# Altium footprint library BoardLib.PcbLib: 21 footprints (part 1 of 2)
Each footprint in its own frame and in the unit in brackets; x right, y up, seen from the top. Pads: shape width x height; smd on the part's side, far side on the other; paste and mask are expansions set on the pad; w line width, h text height; cw(c..) or ccw(c..) is an arc to the next point about the centre after c.
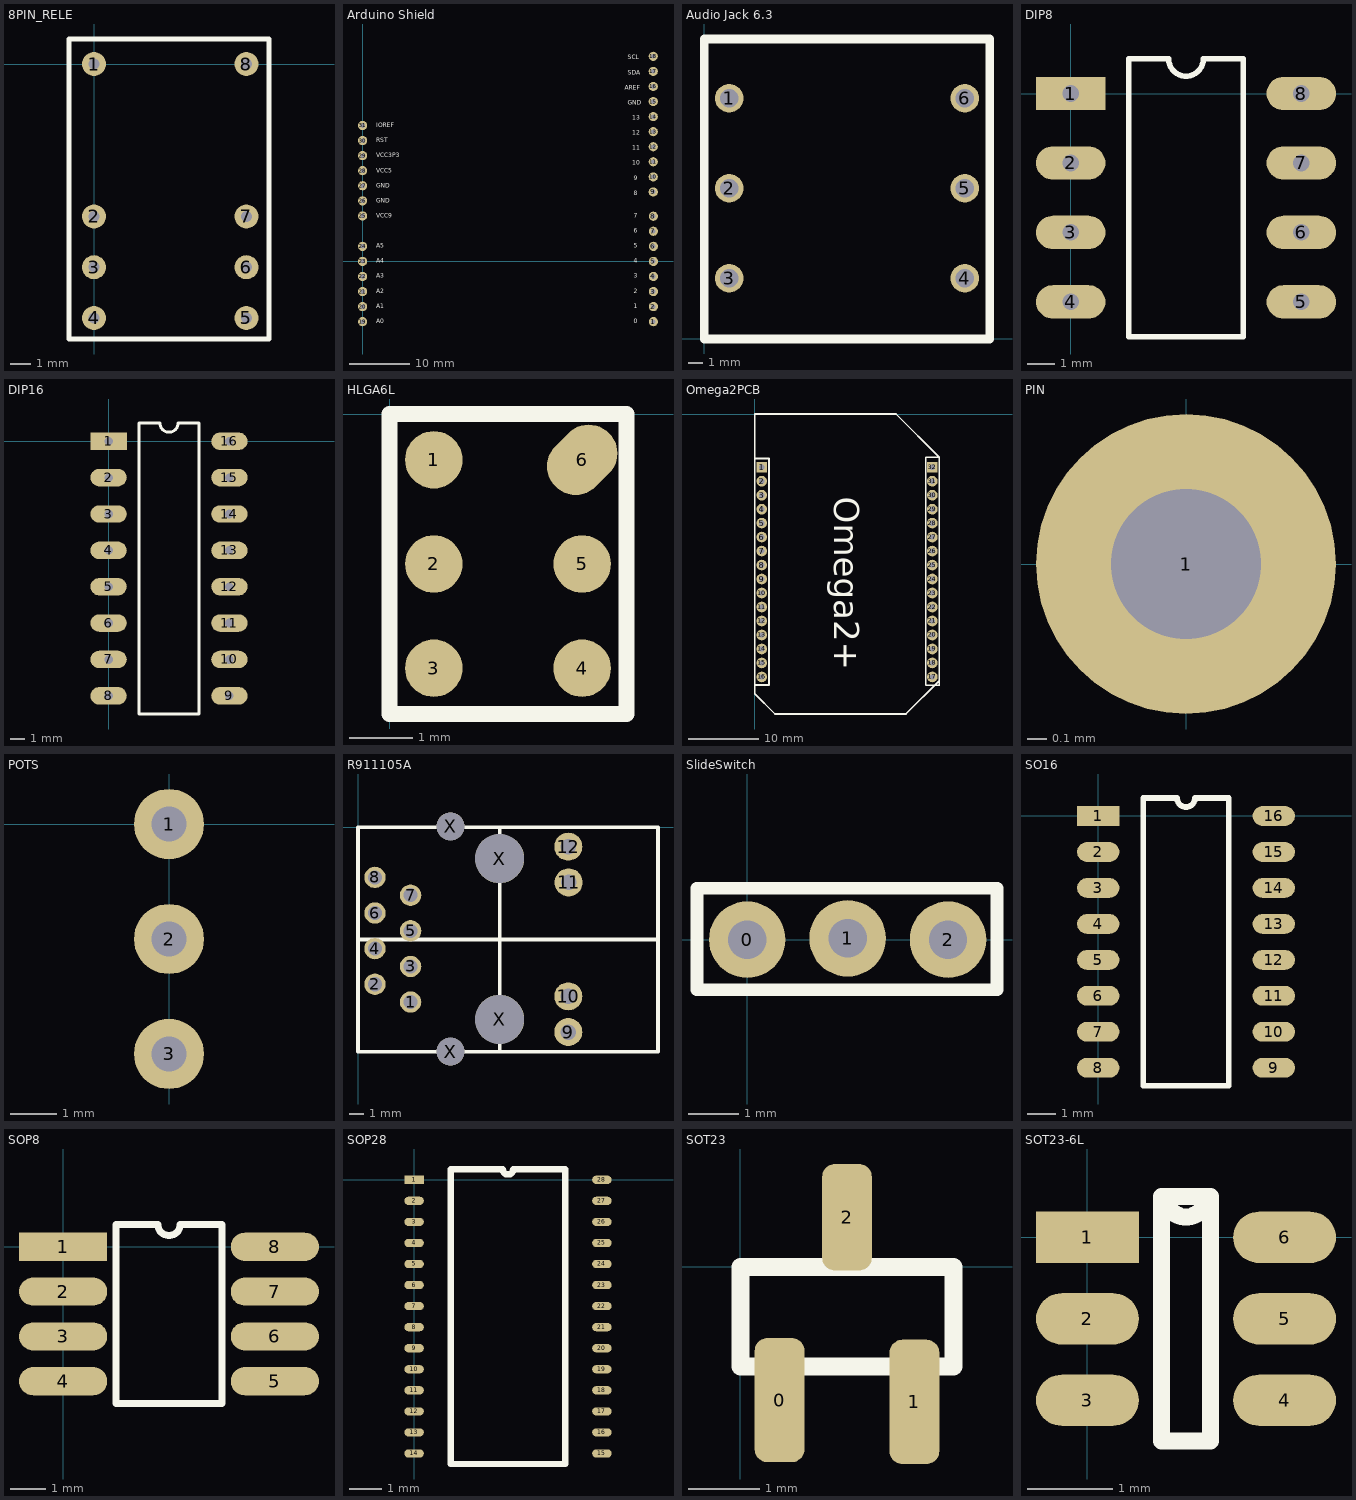
[diagram p0: the footprints below, top view; thin cyan lines are the x and y axes]

## 8PIN_RELE [mm]
pads (8):
  round 1.2 hole 0.55: 1(0,0) 2(0,-7.62) 3(0,-10.16) 4(0,-12.7) 5(7.62,-12.7) 6(7.62,-10.16) 7(7.62,-7.62) 8(7.62,0)
Top Overlay:
  lines w0.254: -1.25,-13.75 -1.25,1.25 8.75,1.25 8.75,-13.75 -1.25,-13.75
3D body: height 11.5, standoff 0, extent -1.377,-13.877 8.877,1.377

## Arduino Shield [mil]
pads (31):
  round 60 hole 30: 1(1899.61,-393.7) 2(1899.61,-295.28) 3(1899.61,-196.85) 4(1899.61,-98.43) 5(1899.61,0) 6(1899.61,98.43) 7(1899.61,196.85) 8(1899.61,295.28) 9(1898.62,453.74) 10(1898.62,552.17) 11(1898.62,650.59) 12(1898.62,749.02) 13(1898.62,847.44) 14(1898.62,945.87) 15(1898.62,1044.29) 16(1898.62,1142.72) 17(1898.62,1241.14) 18(1898.62,1339.57) 19(0,-393.7) 20(0,-295.28) 21(0,-196.85) 22(0,-98.43) 23(0,0) 24(0,98.43) 25(0,297.24) 26(0,395.67) 27(0,494.09) 28(0,592.52) 29(0,690.94) 30(0,789.37) 31(0,887.8)
Top Overlay:
  text "0" at 1771.65,-403.54 h27.56
  text "1" at 1771.65,-305.12 h27.56
  text "2" at 1771.65,-206.69 h27.56
  text "3" at 1771.65,-108.27 h27.56
  text "4" at 1771.65,-9.84 h27.56
  text "5" at 1771.65,88.58 h27.56
  text "6" at 1771.65,187.01 h27.56
  text "7" at 1771.65,285.43 h27.56
  text "8" at 1771.65,433.07 h27.56
  text "9" at 1771.65,531.5 h27.56
  text "10" at 1761.81,629.92 h27.56
  text "11" at 1761.81,728.35 h27.56
  text "12" at 1761.81,826.77 h27.56
  text "13" at 1761.81,925.2 h27.56
  text "GND" at 1732.28,1023.62 h27.56
  text "AREF" at 1712.6,1122.05 h27.56
  text "SDA" at 1732.28,1220.47 h27.56
  text "SCL" at 1732.28,1318.9 h27.56
  text "A0" at 88.58,-403.54 h27.56
  text "A1" at 88.58,-305.12 h27.56
  text "A2" at 88.58,-206.69 h27.56
  text "A3" at 88.58,-108.27 h27.56
  text "A4" at 88.58,-9.84 h27.56
  text "A5" at 88.58,88.58 h27.56
  text "VCC9" at 88.58,285.43 h27.56
  text "GND" at 88.58,383.86 h27.56
  text "GND" at 88.58,482.28 h27.56
  text "VCC5" at 88.58,580.71 h27.56
  text "IOREF" at 88.58,875.98 h27.56
  text "VCC3P3" at 88.58,679.13 h27.56
  text "RST" at 88.58,777.56 h27.56

## Audio Jack 6.3 [mm]
pads (6):
  round 2 hole 1.3: 1(1.75,16.85) 2(1.75,10.55) 3(1.75,4.25) 4(18.25,4.25) 5(18.25,10.55) 6(18.25,16.85)
Top Overlay:
  lines w0.6: 0,0 20,0 20,21 0,21 0,0

## DIP8 [mm]
pads (8):
  rect 2.5x1.2 hole 0.6: 1(0,0)
  oval 2.5x1.2 hole 0.6: 2(0,-2.5) 3(0,-5) 4(0,-7.5) 5(8.3,-7.5) 6(8.3,-5) 7(8.3,-2.5) 8(8.3,0)
Top Overlay:
  lines w0.2: 2.085,-8.75 6.215,-8.75 6.215,1.25 4.775,1.25 cw(c4.15,1.25) 3.525,1.25 2.085,1.25 2.085,-8.75

## DIP16 [mm]
pads (16):
  rect 2.5x1.2 hole 0.6: 1(0,0)
  oval 2.5x1.2 hole 0.6: 2(0,-2.5) 3(0,-5) 4(0,-7.5) 5(0,-10) 6(0,-12.5) 7(0,-15) 8(0,-17.5) 9(8.3,-17.5) 10(8.3,-15) 11(8.3,-12.5) 12(8.3,-10) 13(8.3,-7.5) 14(8.3,-5) 15(8.3,-2.5) 16(8.3,0)
Top Overlay:
  lines w0.2: 2.085,-18.75 2.085,1.25 3.525,1.25 ccw(c4.15,1.25) 4.775,1.25 6.215,1.25 6.215,-18.75 2.085,-18.75

## HLGA6L [mm]
height 4
pads (6):
  round 0.91 smd: 1(0.7,-0.725) 2(0.7,-2.375) 3(0.7,-4.025) 4(3.05,-4.025) 5(3.05,-2.375)
  oval 1.2x0.91 smd rot 45: 6(3.05,-0.725)
Top Overlay:
  lines w0.254: 0,-4.75 3.75,-4.75 3.75,0 0,0 0,-4.75
3D body: height 1, standoff 0, extent -0.127,-4.877 3.877,0.127

## Omega2PCB [mil]
pads (32):
  rect 60x60 hole 30: 1(39.37,-299.21) 32(1000,-299.21)
  round 60 hole 30: 2(39.37,-377.95) 3(39.37,-456.69) 4(39.37,-535.43) 5(39.37,-614.17) 6(39.37,-692.91) 7(39.37,-771.65) 8(39.37,-850.39) 9(39.37,-929.13) 10(39.37,-1007.87) 11(39.37,-1086.61) 12(39.37,-1165.35) 13(39.37,-1244.09) 14(39.37,-1322.83) 15(39.37,-1401.57) 16(39.37,-1480.32) 17(1000,-1480.32) 18(1000,-1401.57) 19(1000,-1322.83) 20(1000,-1244.09) 21(1000,-1165.35) 22(1000,-1086.61) 23(1000,-1007.87) 24(1000,-929.13) 25(1000,-850.39) 26(1000,-771.65) 27(1000,-692.91) 28(1000,-614.17) 29(1000,-535.43) 30(1000,-456.69) 31(1000,-377.95)
Top Overlay:
  lines w10: -0.39,-1526.38 79.92,-1526.38 79.92,-251.18 1.18,-251.18 ; 1039.37,-244.09 795.28,0 0,0 0,-1574.8 114.17,-1688.98 851.38,-1688.98 1039.37,-1500.98 1039.37,-244.09 ; 1039.37,-244.09 962.6,-244.09 962.6,-1527.17 1038.58,-1527.17 1039.37,-1526.38 1039.37,-244.09
  text "Omega2+" at 447.83,-466.54 h138.74

## PIN [mil]
pads (1):
  round 60 hole 30: 1(0,0)

## POTS [mil]
pads (3):
  round 60 hole 30: 1(0,0) 2(0,-98.43) 3(0,-196.85)

## R911105A [mm]
pads (16):
  round 1.524 hole 1: 1(3.75,-12.46) 2(1.21,-11.19) 3(3.75,-9.92) 4(1.21,-8.65) 5(3.75,-7.38) 6(1.21,-6.11) 7(3.75,-4.84) 8(1.21,-3.57)
  round 2 hole 1.1: 9(15,-14.6) 10(15,-12.05) 11(15.025,-3.925) 12(15,-1.375)
  round 2 hole 2: X(6.6,-16) X(6.6,0.075)
  round 3.5 hole 3.5: X(10.1,-13.7) X(10.1,-2.225)
Top Overlay:
  lines w0.254: 0,-8 21.4,-8 ; 10.1,-15.975 10.1,0 ; 0,-16 0,0 21.4,0 21.4,-16 0,-16

## SlideSwitch [mil]
pads (3):
  round 60 hole 30: 0(0,0) 1(78.74,0.98) 2(157.48,0)
Top Overlay:
  lines w10: 195.87,40.35 195.87,-39.37 -39.37,-39.37 -39.37,40.35 195.87,40.35 ; 195.87,40.35 195.87,40.35

## SO16 [mm]
pads (16):
  rect 1.5x0.7 smd: 1(0,0)
  oval 1.5x0.7 smd: 2(0,-1.27) 3(0,-2.54) 4(0,-3.81) 5(0,-5.08) 6(0,-6.35) 7(0,-7.62) 8(0,-8.89) 9(6.2,-8.89) 10(6.2,-7.62) 11(6.2,-6.35) 12(6.2,-5.08) 13(6.2,-3.81) 14(6.2,-2.54) 15(6.2,-1.27) 16(6.2,0)
Top Overlay:
  lines w0.2: 1.585,-9.525 1.585,0.635 2.782,0.635 ccw(c3.1,0.635) 3.417,0.635 4.615,0.635 4.615,-9.525 1.585,-9.525

## SOP8 [mm]
pads (8):
  rect 2.5x0.8 smd: 1(0,0)
  oval 2.5x0.8 smd: 2(0,-1.27) 3(0,-2.54) 4(0,-3.81) 5(6,-3.81) 6(6,-2.54) 7(6,-1.27) 8(6,0)
Top Overlay:
  lines w0.2: 1.5,-4.445 1.5,0.635 2.682,0.635 ccw(c3,0.635) 3.317,0.635 4.5,0.635 4.5,-4.445 1.5,-4.445

## SOP28 [mm]
pads (28):
  rect 0.6x0.254 smd: 1(0,0)
  oval 0.6x0.254 smd: 2(0,-0.65) 3(0,-1.3) 4(0,-1.95) 5(0,-2.6) 6(0,-3.25) 7(0,-3.9) 8(0,-4.55) 9(0,-5.2) 10(0,-5.85) 11(0,-6.5) 12(0,-7.15) 13(0,-7.8) 14(0,-8.45) 15(5.8,-8.45) 16(5.8,-7.8) 17(5.8,-7.15) 18(5.8,-6.5) 19(5.8,-5.85) 20(5.8,-5.2) 21(5.8,-4.55) 22(5.8,-3.9) 23(5.8,-3.25) 24(5.8,-2.6) 25(5.8,-1.95) 26(5.8,-1.3) 27(5.8,-0.65) 28(5.8,0)
Top Overlay:
  lines w0.2: 1.135,-8.775 1.135,0.325 2.738,0.325 ccw(c2.9,0.325) 3.062,0.325 4.665,0.325 4.665,-8.775 1.135,-8.775

## SOT23 [mm]
pads (3):
  rrect50% 0.7x1.75 smd: 0(0.55,-1.875) 1(2.45,-1.9)
  rrect50% 0.7x1.5 smd: 2(1.5,0.7)
Top Overlay:
  lines w0.254: 0,-1.4 3,-1.4 3,0 0,0 0,-1.4

## SOT23-6L [mm]
pads (6):
  rect 1.2x0.6 smd: 1(0,0)
  oval 1.2x0.6 smd: 2(0,-0.95) 3(0,-1.9) 4(2.3,-1.9) 5(2.3,-0.95) 6(2.3,0)
Top Overlay:
  lines w0.2: 0.865,-2.375 1.435,-2.375 1.435,0.475 0.913,0.475 ccw(c1.15,0.475) 1.388,0.475 0.865,0.475 0.865,-2.375